# Altium schematic symbol library BJT_NPN_BCE.Schlib: 1 symbol
Pins are listed as number, name and electrical type; pins without a type are passive.

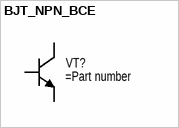
[diagram p0: symbol BJT_NPN_BCE]

## BJT_NPN_BCE
designator VT?
pins: 1 B, 2 C, 3 E